# Altium footprint library PcbLib1.PcbLib: 13 footprints
Each footprint in its own frame and in the unit in brackets; x right, y up, seen from the top. Pads: shape width x height; smd on the part's side, far side on the other; paste and mask are expansions set on the pad; w line width, h text height; cw(c..) or ccw(c..) is an arc to the next point about the centre after c.
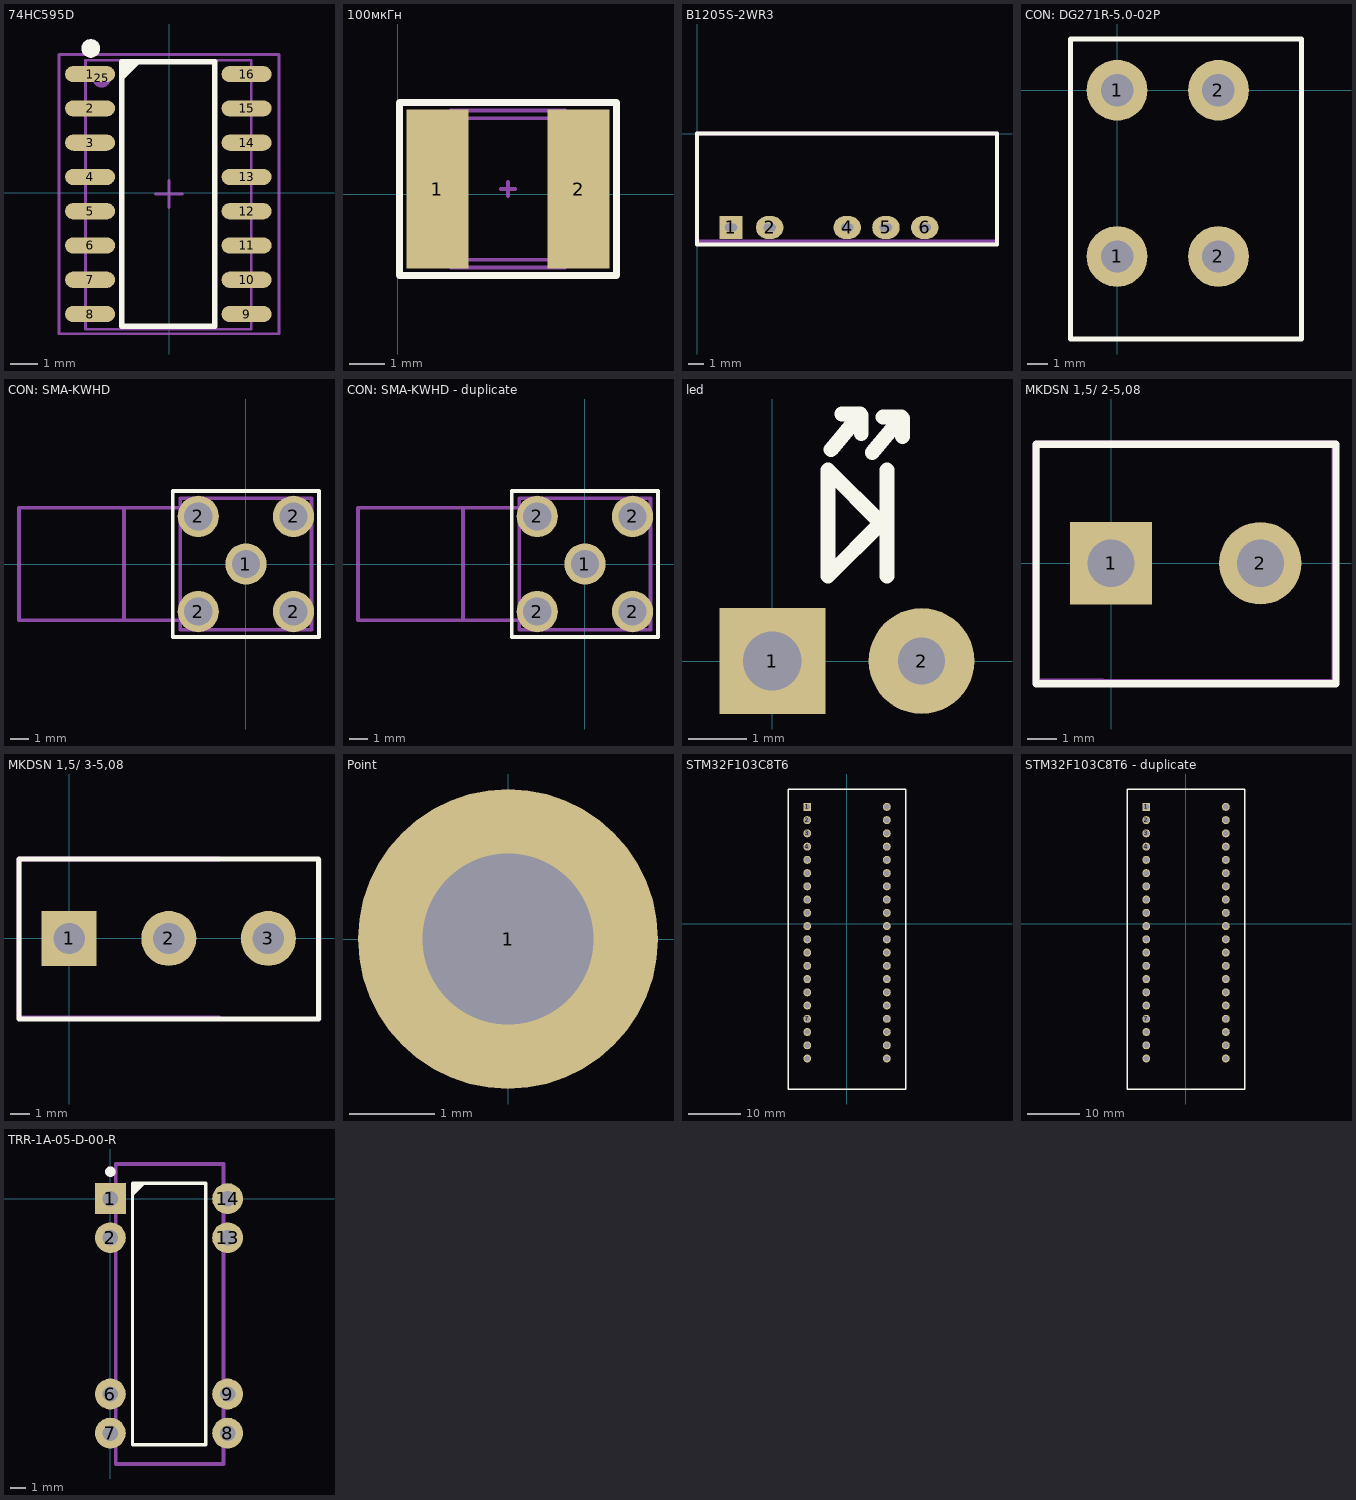
[diagram p0: the footprints below, top view; thin cyan lines are the x and y axes]

## 74HC595D [mm]
pads (18):
  oval 1.85x0.6 smd mask+0.065: 1(-2.925,4.398) 2(-2.925,3.128) 3(-2.925,1.858) 4(-2.925,0.588) 5(-2.925,-0.682) 6(-2.925,-1.952) 7(-2.925,-3.222) 8(-2.925,-4.492) 9(2.875,-4.492) 10(2.875,-3.222) 11(2.875,-1.952) 12(2.875,-0.682) 13(2.875,0.588) 14(2.875,1.858) 15(2.875,3.128) 16(2.875,4.398)
  round 0.7 on Mech1: 25(-2.5,4.25)
  round 0.7 on Top Overlay: ""(-2.9,5.35)
Top Overlay:
  region: -1.75,4.85 -1.75,4.13 -1.03,4.85
  lines w0.2: -1.75,-4.95 1.7,-4.95 1.7,4.85 -1.75,4.85 -1.75,-4.95
Mechanical 1:
  lines w0.1: -3.093,-5.06 3.044,-5.06 3.044,4.91 -3.093,4.91 -3.093,-5.06
Mechanical 15:
  lines w0.1: -0.499,-0.047 0.501,-0.047 ; 0.001,-0.547 0.001,0.453 ; -4.075,-5.225 4.075,-5.225 4.075,5.125 -4.075,5.125 -4.075,-5.225
3D body "User Library-so16-1.STEP": height 1.73, standoff -0.04, extent -3.093,-5.06 3.044,4.91

## 100мкГн [mm]
pads (2):
  rect 1.75x4.5 smd: 1(1.125,0.15) 2(5.125,0.15)
Top Overlay:
  lines w0.2: 0.05,-2.3 6.2,-2.3 6.2,2.6 0.05,2.6 0.05,-2.3
Mechanical 1:
  lines w0.1: 1.625,-1.85 cw(c3.125,0.15) 1.625,2.15 4.625,2.15 cw(c3.125,0.15) 4.625,-1.85 1.625,-1.85
Mechanical 15:
  lines w0.1: 2.925,0.15 3.325,0.15 ; 3.125,-0.05 3.125,0.35 ; 1.508,-2.074 cw(c3.125,0.15) 1.508,2.374 4.742,2.374 cw(c3.125,0.15) 4.742,-2.074 1.508,-2.074
3D body "CD43.STEP": height 3.2, standoff 0, extent 0.881,-1.85 5.369,2.15

## B1205S-2WR3 [mm]
pads (5):
  rect 1.5x1.5 hole 0.5 slot 0.8 at 0 deg: 1(2.226,-6.146)
  oval 1.8x1.5 hole 0.5 slot 0.8 at 0 deg: 2(4.756,-6.146) 4(9.836,-6.146) 5(12.376,-6.146) 6(14.916,-6.146)
Top Overlay:
  lines w0.254: 0,-7.25 19.65,-7.25 19.65,0 0,0 0,-7.25
Mechanical 1:
  lines w0.254: 0,-7.05 19.65,-7.05 19.65,0 0,0 0,-7.05
3D body: height 1, standoff -3, extent 1.976,-6.296 2.476,-5.996
3D body: height 1, standoff -3, extent 4.506,-6.296 5.006,-5.996
3D body: height 1, standoff -3, extent 9.586,-6.296 10.086,-5.996
3D body: height 1, standoff -3, extent 12.126,-6.296 12.626,-5.996
3D body: height 1, standoff -3, extent 14.666,-6.296 15.166,-5.996
3D body: height 11.16, standoff 1, extent 0,-7.05 19.65,0

## CON: DG271R-5.0-02P [mm]
pads (4):
  round 3 hole 1.6: 1(0,-8.2) 1(0,0) 2(5,-8.2) 2(5,0)
Top Overlay:
  lines w0.254: -2.3,-12.27 -2.3,2.53 9.1,2.53 9.1,-12.27 -2.3,-12.27
Mechanical 1:
  lines w0.1: -2.3,-12.27 -2.3,2.53 9.1,2.53 9.1,-12.27 -2.3,-12.27
Mechanical 15:
  lines w0.1: -2.3,-12.27 9.1,-12.27 9.1,2.53 -2.3,2.53
3D body "DG271R-5.0-02P-1Y-100A&Z(H).stp.STP": height 13.6, standoff -2.4, extent -2.3,-12.27 9.1,2.53

## CON: SMA-KWHD [mm] "SMA угловой на плату"
height 10
pads (5):
  round 2.2 hole 1.5 mask+0.1: 1(0,0) 2(-2.54,-2.54) 2(-2.54,2.54) 2(2.54,-2.54) 2(2.54,2.54)
Top Overlay:
  lines w0.2: -3.9,-3.9 -3.9,3.9 3.9,3.9 3.9,-3.9 -3.9,-3.9
Mechanical 13:
  lines w0.2: -6.5,-3 -6.5,3 ; -3.5,-3 -12.1,-3 -12.1,3 -3.5,3 ; -3.5,-3.5 3.5,-3.5 3.5,3.5 -3.5,3.5 -3.5,-3.5
3D body "SMA-JR.STEP": height 9.7, standoff -4.55, extent -11.5,-3.5 3.5,3.5

## CON: SMA-KWHD - duplicate [mm] "SMA угловой на плату"
height 10
pads (5):
  round 2.2 hole 1.5 mask+0.1: 1(0,0) 2(-2.54,-2.54) 2(-2.54,2.54) 2(2.54,-2.54) 2(2.54,2.54)
Top Overlay:
  lines w0.2: -3.9,-3.9 -3.9,3.9 3.9,3.9 3.9,-3.9 -3.9,-3.9
Mechanical 13:
  lines w0.2: -6.5,-3 -6.5,3 ; -3.5,-3 -12.1,-3 -12.1,3 -3.5,3 ; -3.5,-3.5 3.5,-3.5 3.5,3.5 -3.5,3.5 -3.5,-3.5

## led [mm]
pads (2):
  rect 1.8x1.8 hole 1: 1(0,0)
  round 1.8 hole 0.8: 2(2.54,0)
Top Overlay:
  lines w0.254: 1,3.6 1.5,4.2 1.495,4.205 1.181,4.205 ; 1.513,3.868 1.513,4.182 ; 1.7,3.55 2.2,4.15 2.195,4.155 1.881,4.155 ; 1.95,1.45 1.95,3.25 ; 2.213,3.818 2.213,4.132 ; 0.95,1.45 1.85,2.35 0.95,3.25 0.95,1.45
3D body "LED 3mm Red.step": height 8.6, standoff -4, extent -0.4,-1.95 3.163,1.88

## MKDSN 1,5/ 2-5,08 [mm]
pads (2):
  rect 2.8x2.8 hole 1.6: 1(0,0)
  round 2.8 hole 1.6: 2(5.08,0)
Top Overlay:
  lines w0.254: -2.55,-4.1 -2.55,4.05 7.65,4.05 7.65,-4.1 -2.55,-4.1
Mechanical 1:
  lines w0.254: -2.543,-4.052 -1.565,-4.052 -0.295,-4.052 ; -2.543,-3.984 -2.543,-0.004 ; -2.54,0 -2.54,4.05 -1.27,4.05 0,4.05 5.08,4.05 ; -0.353,-4.054 4.727,-4.054 5.997,-4.054 7.63,-4.054 7.63,-0.027 7.63,4.048 6.292,4.048 5.022,4.048
3D body: height 10.5, standoff 0.5, extent -2.543,-4.054 7.669,4.05
3D body: height 0.5, standoff -3, extent -0.65,-0.65 0.65,0.65
3D body: height 0.5, standoff -3, extent 4.43,-0.65 5.73,0.65

## MKDSN 1,5/ 3-5,08 [mm]
pads (3):
  rect 2.8x2.8 hole 1.6: 1(0,0)
  round 2.8 hole 1.6: 2(5.08,0) 3(10.15,0)
Top Overlay:
  lines w0.254: -2.55,-4.1 12.7,-4.1 12.7,4.05 -2.55,4.05 -2.55,-4.1
Mechanical 1:
  lines w0.254: -2.543,-4.052 -1.565,-4.052 -0.295,-4.052 ; -2.543,-3.984 -2.543,-0.004 ; -2.54,0 -2.54,4.05 -1.27,4.05 0,4.05 5.08,4.05 ; -0.353,-4.054 4.727,-4.054 5.997,-4.054 7.63,-4.054 ; 5.022,4.048 6.292,4.048 7.63,4.048 ; 12.73,-4.104 12.73,-0.077 12.73,3.998
3D body: height 0.5, standoff -3, extent 4.435,-0.649 5.73,0.649
3D body: height 0.5, standoff -3, extent -0.65,-0.65 0.65,0.65
3D body: height 10.5, standoff 0.5, extent -2.543,-4.055 12.7,4.05
3D body: height 0.5, standoff -3, extent 9.505,-0.649 10.8,0.649

## Point [mm]
pads (1):
  round 3.5 hole 2: 1(0,0)

## STM32F103C8T6 [mm]
pads (40):
  rect 1.524x1.524 hole 1.02: 1(-7.6,22.44)
  round 1.524 hole 1.02: 2(-7.6,19.9) 3(-7.6,17.36) 4(-7.6,14.82) 5V(7.65,17.36) 7(-7.6,-18.2) 10(-7.6,12.28) 11(-7.6,9.74) 12(-7.6,7.2) 13(-7.6,4.66) 14(-7.6,2.12) 15(-7.6,-0.42) 16(-7.6,-2.96) 17(-7.6,-5.5) 18(-7.6,-8.04) 19(-7.6,-10.58) 21(-7.6,-13.12) 22(-7.6,-15.66) 25(7.65,-25.82) 26(7.65,-23.28) 27(7.65,-20.74) 28(7.65,-18.2) 29(7.65,-15.66) 30(7.65,-13.12) 31(7.65,-10.58) 32(7.65,-8.04) 33(7.65,-5.5) 38(7.65,-2.96) 39(7.65,-0.42) 40(7.65,2.12) 41(7.65,4.66) 42(7.65,7.2) 43(7.65,9.74) 45(7.65,12.28) 46(7.65,14.82) A1(-7.6,-20.74) A2(7.65,22.44) GND(-7.6,-25.82) GND(-7.6,-23.28) GND(7.65,19.9)
Top Overlay:
  lines w0.254: -11.283,-31.662 -11.283,25.615 -11.283,25.869 11.323,25.869 11.323,-31.662 -11.283,-31.662
3D body "STM32F103C8T6_Blue_Pill v6.step": height 20.77, standoff 2.5, extent -11.46,-29.35 11.4,28.21
3D body "PBS-20.stp": height 8.4, standoff -3.2, extent 6.314,-27.159 8.854,23.641
3D body "PBS-20.stp": height 2.8, standoff -8.8, extent -8.89,-27.15 -6.35,23.65
3D body: height 0, standoff -15.5, extent 7.3,22.1 8,22.8
3D body: height 0, standoff -15.5, extent 7.3,19.56 8,20.26
3D body: height 0, standoff -15.5, extent 7.3,17.02 8,17.72
3D body: height 0, standoff -15.5, extent 7.3,14.48 8,15.18
3D body: height 0, standoff -15.5, extent 7.3,11.94 8,12.64
3D body: height 0, standoff -15.5, extent 7.3,9.4 8,10.1
3D body: height 0, standoff -15.5, extent 7.3,6.86 8,7.56
3D body: height 0, standoff -15.5, extent 7.3,4.32 8,5.02
3D body: height 0, standoff -15.5, extent 7.3,1.78 8,2.48
3D body: height 0, standoff -15.5, extent 7.3,-0.76 8,-0.06
3D body: height 0, standoff -15.5, extent 7.3,-3.3 8,-2.6
3D body: height 0, standoff -15.5, extent 7.3,-5.84 8,-5.14
3D body: height 0, standoff -15.5, extent 7.3,-8.38 8,-7.68
3D body: height 0, standoff -15.5, extent 7.3,-10.92 8,-10.22
3D body: height 0, standoff -15.5, extent 7.3,-13.46 8,-12.76
3D body: height 0, standoff -15.5, extent 7.3,-16 8,-15.3
3D body: height 0, standoff -15.5, extent 7.3,-18.54 8,-17.84
3D body: height 0, standoff -15.5, extent 7.3,-21.08 8,-20.38
3D body: height 0, standoff -15.5, extent 7.3,-23.62 8,-22.92
3D body: height 0, standoff -15.5, extent 7.3,-26.16 8,-25.46
3D body: height 0, standoff -15.5, extent -7.95,-26.16 -7.25,-25.46
3D body: height 0, standoff -15.5, extent -7.95,-23.62 -7.25,-22.92
3D body: height 0, standoff -15.5, extent -7.95,-21.08 -7.25,-20.38
3D body: height 0, standoff -15.5, extent -7.95,-18.54 -7.25,-17.84
3D body: height 0, standoff -15.5, extent -7.95,-16 -7.25,-15.3
3D body: height 0, standoff -15.5, extent -7.95,-13.46 -7.25,-12.76
3D body: height 0, standoff -15.5, extent -7.95,-10.92 -7.25,-10.22
3D body: height 0, standoff -15.5, extent -7.95,-8.38 -7.25,-7.68
3D body: height 0, standoff -15.5, extent -7.95,-5.84 -7.25,-5.14
3D body: height 0, standoff -15.5, extent -7.95,-3.3 -7.25,-2.6
3D body: height 0, standoff -15.5, extent -7.95,-0.76 -7.25,-0.06
3D body: height 0, standoff -15.5, extent -7.95,1.78 -7.25,2.48
3D body: height 0, standoff -15.5, extent -7.95,4.32 -7.25,5.02
3D body: height 0, standoff -15.5, extent -7.95,6.86 -7.25,7.56
3D body: height 0, standoff -15.5, extent -7.95,9.4 -7.25,10.1
3D body: height 0, standoff -15.5, extent -7.95,11.94 -7.25,12.64
3D body: height 0, standoff -15.5, extent -7.95,14.48 -7.25,15.18
3D body: height 0, standoff -15.5, extent -7.95,17.02 -7.25,17.72
3D body: height 0, standoff -15.5, extent -7.95,19.56 -7.25,20.26
3D body: height 0, standoff -15.5, extent -7.95,22.1 -7.25,22.8

## STM32F103C8T6 - duplicate [mm]
pads (40):
  rect 1.524x1.524 hole 1.02: 1(-7.6,22.44)
  round 1.524 hole 1.02: 2(-7.6,19.9) 3(-7.6,17.36) 4(-7.6,14.82) 5V(7.65,17.36) 7(-7.6,-18.2) 10(-7.6,12.28) 11(-7.6,9.74) 12(-7.6,7.2) 13(-7.6,4.66) 14(-7.6,2.12) 15(-7.6,-0.42) 16(-7.6,-2.96) 17(-7.6,-5.5) 18(-7.6,-8.04) 19(-7.6,-10.58) 21(-7.6,-13.12) 22(-7.6,-15.66) 25(7.65,-25.82) 26(7.65,-23.28) 27(7.65,-20.74) 28(7.65,-18.2) 29(7.65,-15.66) 30(7.65,-13.12) 31(7.65,-10.58) 32(7.65,-8.04) 33(7.65,-5.5) 38(7.65,-2.96) 39(7.65,-0.42) 40(7.65,2.12) 41(7.65,4.66) 42(7.65,7.2) 43(7.65,9.74) 45(7.65,12.28) 46(7.65,14.82) A1(-7.6,-20.74) A2(7.65,22.44) GND(-7.6,-25.82) GND(-7.6,-23.28) GND(7.65,19.9)
Top Overlay:
  lines w0.254: -11.283,-31.662 -11.283,25.615 -11.283,25.869 11.323,25.869 11.323,-31.662 -11.283,-31.662
3D body "PBS-20.stp": height 8.4, standoff -3.2, extent 6.314,-27.159 8.854,23.641
3D body "PBS-20.stp": height 2.8, standoff -8.8, extent -8.89,-27.15 -6.35,23.65

## TRR-1A-05-D-00-R [mm]
pads (9):
  rect 2x2 hole 1: 1(0,0)
  round 2 hole 1: 2(0,-2.54) 6(0,-12.7) 7(0,-15.24) 8(7.62,-15.24) 9(7.62,-12.7) 13(7.62,-2.54) 14(7.62,0)
  round 0.7 on Top Overlay: ""(0,1.75)
Top Overlay:
  region: 1.54,0.96 1.54,0.24 2.26,0.96
  lines w0.2: 1.45,-16 6.2,-16 6.2,1 1.45,1 1.45,-16
Mechanical 1:
  lines w0.254: 0.35,-17.25 7.35,-17.25 7.35,2.25 0.35,2.25 0.35,-17.25
3D body: height 0.4, standoff -2.6, extent -0.4,-0.4 0.4,0.4
3D body: height 0.4, standoff -2.6, extent -0.4,-2.94 0.4,-2.14
3D body: height 0.4, standoff -2.6, extent -0.4,-13.1 0.4,-12.3
3D body: height 0.4, standoff -2.6, extent -0.4,-15.64 0.4,-14.84
3D body: height 0.4, standoff -2.6, extent 7.22,-15.64 8.02,-14.84
3D body: height 0.4, standoff -2.6, extent 7.22,-13.1 8.02,-12.3
3D body: height 0.4, standoff -2.6, extent 7.22,-2.94 8.02,-2.14
3D body: height 0.4, standoff -2.6, extent 7.22,-0.4 8.02,0.4
3D body: height 5.9, standoff 0.4, extent 0.35,-17.25 7.35,2.25